# EAGLE library part CONN_6 (library formula electric)
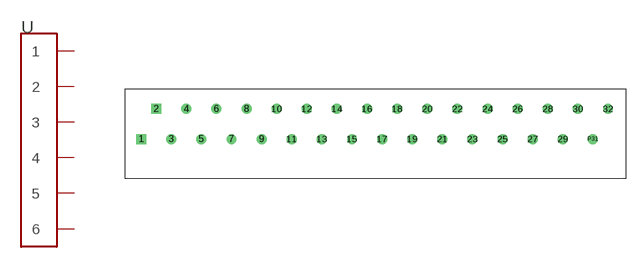
[diagram p7: symbol with the pads of CONNECTOR_16; footprint CONNECTOR_16]

Designator prefix -

## CONN_6  [CONNECTOR_16]
1  1
2  1
3  2
4  2
5  3
6  3
7  4
8  4
9  5
10  5
11  6
12  6

## Footprint CONNECTOR_16 (pad centres in mm)
drill 1.1 square: 1 0,0; 2 2.5,5
drill 1.1: 3 5,0; 4 7.5,5; 5 10,0; 6 12.5,5; 7 15,0; 8 17.5,5; 9 20,0; 10 22.5,5; 11 25,0; 12 27.5,5; 13 30,0; 14 32.5,5; 15 35,0; 16 37.5,5; 17 40,0; 18 42.5,5; 19 45,0; 20 47.5,5; 21 50,0; 22 52.5,5; 23 55,0; 24 57.5,5; 25 60,0; 26 62.5,5; 27 65,0; 28 67.5,5; 29 70,0; 30 72.5,5; 32 77.5,5; P31 75,0